# Altium integrated library BTL.IntLib: 37 symbols
Pins are listed as number, name and electrical type; pins without a type are passive.

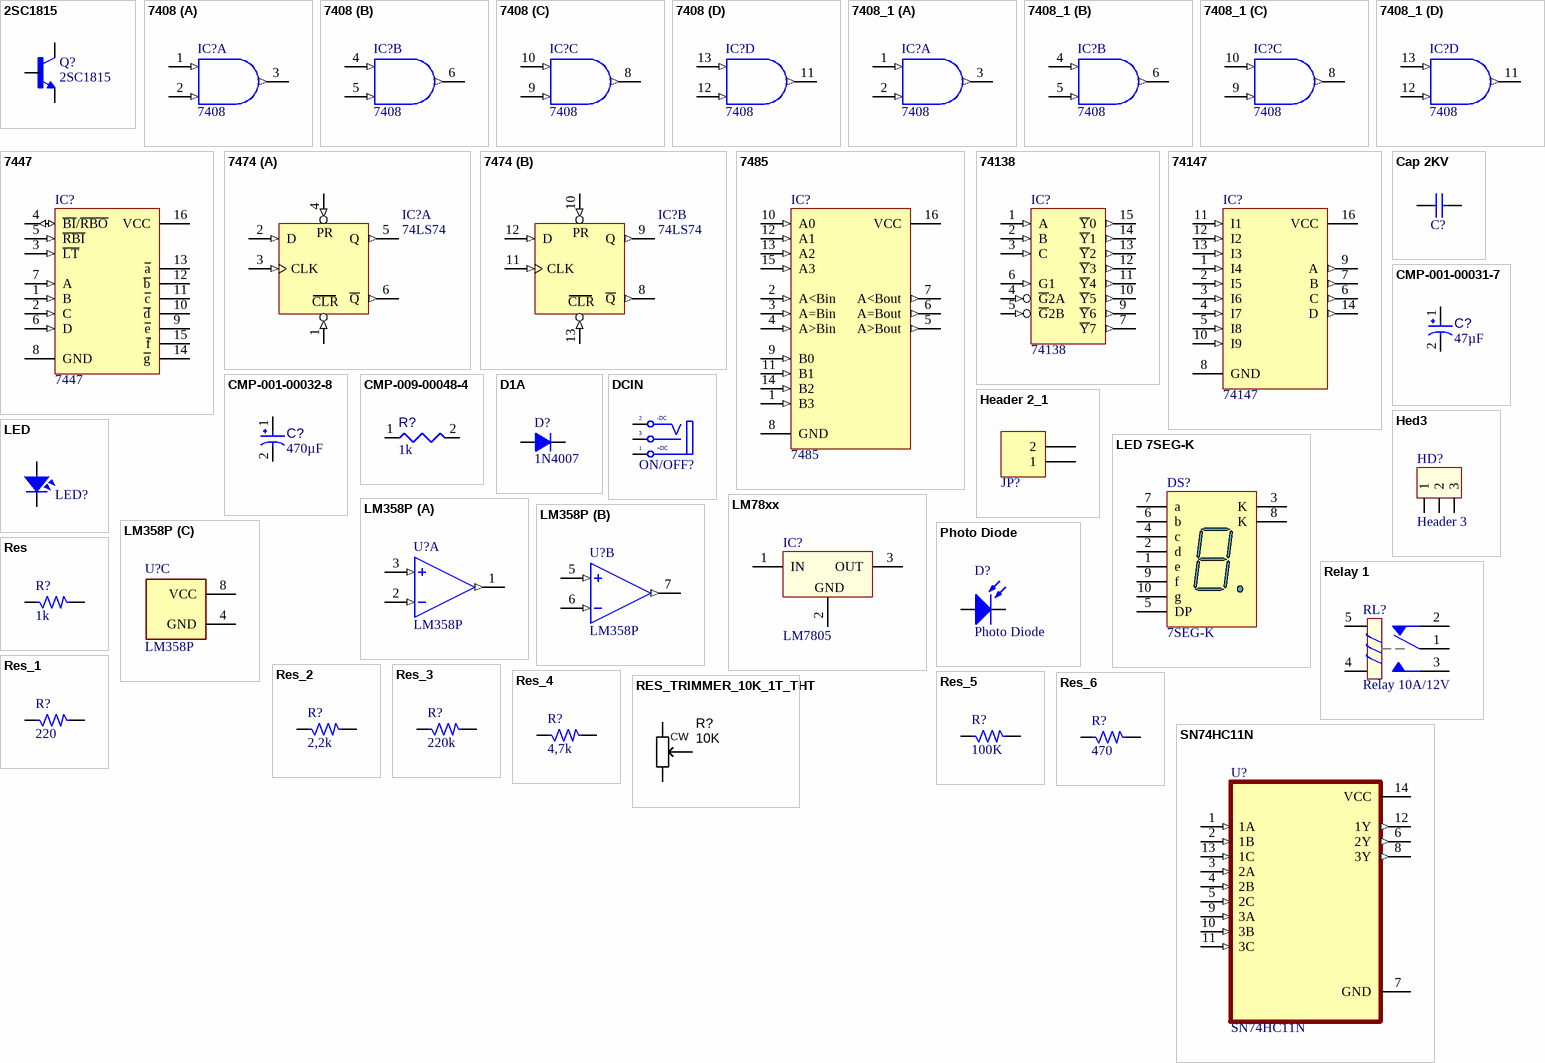
[diagram p0: symbols 2SC1815 to SN74HC11N]

## 2SC1815
designator Q?
MF: {'manufacturer': u'Micro Commercial'}; Package: None; Price: None; Value: *; MP: 2SC1815; Availability: Unavailable
footprint TO92127P521H534-3
pins: 1 E, 2 C, 3 B

## 7408
designator IC?
Quad 2-Input AND Gate; Value: 7408
footprint DIP14/W0.3 (14PIN, W 300mil, Pin to pin 100mil)
footprint 74HC04D SOIC14 (SOIC, 14-Leads, Body 8.65x3.90mm, Pitch 1.27mm, IPC Medium Density)
pins on every part: 7 GND (power) hidden to GND, 14 VCC (power) hidden to VCC
part A pins: 1 A (in), 2 B (in), 3 O (out)
part B pins: 4 A (in), 5 B (in), 6 O (out)
part C pins: 8 O (out), 9 B (in), 10 A (in)
part D pins: 11 O (out), 12 B (in), 13 A (in)

## 7408_1
designator IC?, comment 7408
Quad 2-Input AND Gate; Value: 7408
footprint DIP14/W0.3 (14PIN, W 300mil, Pin to pin 100mil)
pins on every part: 7 GND (power) hidden to GND, 14 VCC (power) hidden to VCC
part A pins: 1 A (in), 2 B (in), 3 O (out)
part B pins: 4 A (in), 5 B (in), 6 O (out)
part C pins: 8 O (out), 9 B (in), 10 A (in)
part D pins: 11 O (out), 12 B (in), 13 A (in)

## 7447
designator IC?
BCD to 7-Segment Decoder/Driver; Value: 7447 , 74247
footprint DIP16/W0.3 (16 PIN, W 300mil, Pin to pin 100mil)
pins: 1 B (in), 2 C (in), 3 ~{LT} (in), 4 ~{BI}/~{RBO} (io), 5 ~{RBI} (in), 6 D (in), 7 A (in), 8 GND (power), 9 ~{e} (oc), 10 ~{d} (oc), 11 ~{c} (oc), 12 ~{b} (oc), 13 ~{a} (oc), 14 ~{g} (oc), 15 ~{f} (oc), 16 VCC (power)

## 7474
designator IC?, comment 74LS74
Dual D Flip-Flop; Value: 74LS74; Copyright by: VanDungEvn@Gmail.com
footprint DIP14/W0.3 (14PIN, W 300mil, Pin to pin 100mil)
pins on every part: 7 GND (power) hidden to GND, 14 VCC (power) hidden to VCC
part A pins: 1 CLR (in), 2 D (in), 3 CLK (in), 4 PR (in), 5 Q (out), 6 ~{Q} (out)
part B pins: 8 ~{Q} (out), 9 Q (out), 10 PR (in), 11 CLK (in), 12 D (in), 13 CLR (in)

## 7485
designator IC?
4-Bit Magnitude Comparator; Copyright by: VanDungEvn@Gmail.com; Value: 7485
footprint DIP16/W0.3 (16 PIN, W 300mil)
pins: 1 B3 (in), 2 A<Bin (in), 3 A=Bin (in), 4 A>Bin (in), 5 A>Bout (out), 6 A=Bout (out), 7 A<Bout (out), 8 GND (power), 9 B0 (in), 10 A0 (in), 11 B1 (in), 12 A1 (in), 13 A2 (in), 14 B2 (in), 15 A3 (in), 16 VCC (power)

## 74138
designator IC?
3 -to- 8 Decoder - Out Low; Value: 74138; Copyright by: VanDungEvn@Gmail.com
footprint DIP16/W0.3 (16 PIN, W 300mil, Pin to pin 100mil)
pins: 1 A (in), 2 B (in), 3 C (in), 4 ~{G}2A (in), 5 ~{G}2B (in), 6 G1 (in), 7 ~{Y}7 (out), 8 GND (power) hidden to GND, 9 ~{Y}6 (out), 10 ~{Y}5 (out), 11 ~{Y}4 (out), 12 ~{Y}3 (out), 13 ~{Y}2 (out), 14 ~{Y}1 (out), 15 ~{Y}0 (out), 16 VCC (power) hidden to VCC

## 74147
designator IC?
10-Line to 4-Line Priority Encoder; Copyright by: VanDungEvn@Gmail.com
footprint DIP16/W0.3 (16 PIN, W 300mil, Pin to pin 100mil)
pins: 1 I4 (in), 2 I5 (in), 3 I6 (in), 4 I7 (in), 5 I8 (in), 6 C (out), 7 B (out), 8 GND (power), 9 A (out), 10 I9 (in), 11 I1 (in), 12 I2 (in), 13 I3 (in), 14 D (out), 16 VCC (power)

## Cap 2KV
designator C?, comment Capacitor Ceramic 2KV  (value not drawn)
Published: 8-Jun-2000; LatestRevisionDate: 17-Jul-2002; LatestRevisionNote: Re-released for DXP Platform.; PackageReference: RAD-0.3; Publisher: Altium Limited
footprint 103/2KV
pins: 1, 2

## CMP-001-00031-7
designator C?, comment value 47µF  (hidden comment: ECA-1HM470)
Aluminum Electrolytic Capacitor, 47 uF, +/-20%, 50 V, -40 to 85 degC, 2-Pin THD, RoHS, Bulk; Manufacturer: Panasonic; Ripple Current: 130mA; Voltage Rating: 50V; Tolerance: 20%; RoHS Compliant: True; Lead Pitch: 2.5mm; Packaging: Bulk; Case/Package: Radial; Diameter: 6.3mm; Datasheet Version: Apr-16; Mounting Technology: TH; Max Operating Temperature: 85°C; Package Quantity: 200; Package Description: 2-Pin Radial Lead, Dia 6.3 mm, Height 12.2 mm; Capacitor Type: Electrolytic; Min Operating Temperature: -40°C; Ripple Current (AC): 130mA; Manufacturer URL: http://www.panasonic.com/; Pins: 2; Datasheet URL: https://industrial.panasonic.com/cdbs/www-data/pdf/RDF0000/DMF0000COL72.pdf; Package Reference: CAPPR55-250-1120X630X1220
footprint CAPPR55-250-1120X630X1220 (THD, 2-Leads, Dia 6.3mm, Pin Spacing 2.5mm)
pins: 1, 2

## CMP-001-00032-8
designator C?, comment value 470µF  (hidden comment: ECA-1HM471)
Aluminum Electrolytic Capacitor, 470 uF, +/- 20%, 50 V, -40 to 85 degC, 2-Pin THD, RoHS, Bulk; Manufacturer: Panasonic; Ripple Current: 650mA; Voltage Rating: 50V; Ripple Current (AC): 650mA; Packaging: Bulk; Capacitor Type: Electrolytic; Diameter: 10mm; Datasheet URL: http://industrial.panasonic.com/cdbs/www-data/pdf/RDF0000/ABA0000C1047.pdf; Case/Package: Radial; Tolerance: 20%; Max Operating Temperature: 85°C; Pins: 2; Min Operating Temperature: -40°C; RoHS Compliant: True; Mounting Technology: TH; Package Quantity: 200; Lead Pitch: 5mm; Manufacturer URL: http://www.panasonic.com/; Package Description: 2-Pin Radial Lead, Dia 10 mm, Height 22 mm; Datasheet Version: Mar-16; Package Reference: CAPPR65-500-2000X1000X2200
footprint CAPPR65-500-2000X1000X2200 (THD, 2-Leads, Dia 10mm, Pin Spacing 5mm)
pins: 1, 2

## CMP-009-00048-4
designator R?, comment value 1k  (hidden comment: MFR-25FBF52-1K)
Axial Resistor, 1 KOhm, +/- 1%, 250 mW, -55 to 155 degC, 2-Pin THD, RoHS, Bulk; Manufacturer: Yageo; Voltage Rating: 250V; Power: 250mW; Min Operating Temperature: -55°C; Max Operating Temperature: 155°C; Tolerance: 1%; Package Reference: MFR-25; Composition: CarbonFilm; Mounting Technology: TH; Packaging: Bulk; Case/Package: Axial; Datasheet URL: http://www.yageo.com/documents/recent/Yageo%20LR_MFR_2013.pdf; Package Quantity: 200; Manufacturer URL: http://www.yageo.com/; Package Description: 2-Pin Axial Lead, Dia 2.4 mm, Body Length 6.3 mm; Datasheet Version: Apr-13; RoHS Compliant: True
footprint RESA60-630X240 (Axial Resistor, 2-Leads, Dia 2.4mm, Body Length 6.3mm)
pins: 1, 2
1 alternate drawing of the same symbol

## D1A
designator D?, comment 1N4007
Diode 1A; Value: 1N4007
footprint D1A (Diode 1A, W 100mil, L 350mil)
footprint D2A (Diode 2A, W 150mil, L 450mil)
pins: 1 A, 2 K

## DCIN
designator ON/OFF?, comment POWER  (value not drawn)
footprint DC-IN (Jac DC input)
footprint PJ-031D (Power Header 1mm)
pins: 1 T "Tip", 2 TN "Tip Normal (Break Contact)", 3 S (power) "Sleeve (Ground)"
text: -DC; +DC

## Header 2_1
designator JP?  (value not drawn)
Header, 2-Pin; Manufacturer: Generic Components; Class: Connector; Value: Header 2
footprint HED2 (Header 2, 2 pin, hight 300mil, Pin to Pin 200, Colour Green)
pins: 1, 2

## Hed3
designator HD?, comment Header 3
Header 3 (Green); Value: Header 3
footprint HED3 (Header 3, 3 pin, hight 300mil, Pin to Pin 200)
footprint HED3T (Header 3, 3 pin, hight 300mil, Pin to Pin 200, Colour Green)
footprint HED3B (Header 3, 3 pin, hight 300mil, Pin to Pin 150, Colour White)
pins: 1, 2, 3

## LED
designator LED?  (value not drawn)
LED Single colour Green and Red; Value: LED 3 ly Single Colour
footprint LED-5-BLUE (LED 2 PIN, 5 ly , Only colour, pin to pin 110mil)
footprint LED-5-Green (LED 2 PIN, 5 ly , Only colour,pin to pin 100mil)
footprint LED-5-RED (LED 2 PIN, 5 ly , Only colour,pin to pin 100mil)
footprint LED-5-WHITE (LED 2 PIN, 5 ly , Only colour, pin to pin 110mil)
footprint LED-5-Yellow (LED 2 PIN, 5 ly , Only colour,pin to pin 100mil)
footprint LED-3 (LED 2 PIN, 3ly Only colour)
pins: 1, 2

## LED 7SEG-K
designator DS?, comment 7SEG-K
14.2 mm General Purpose Blue 7-Segment Display: CC, RH DP, Gray Surface; MinimumIntensity: 2020 ucd; Note: IF = 10 mA; Published: 8-Jun-2000; LatestRevisionDate: 17-Dec-2003; LatestRevisionNote: Schematic revised, PCB Footprint replaced.; DatasheetDocument: 24-Sep-2002; PackageDocument: 24-Sep-2002; PackageReference: H; Publisher: Altium Limited; Colour: Blue; ComponentLink1Description: Manufacturer Link; ComponentLink1URL: http://www.agilent.com/
footprint LED7SEG
pins: 1 e "Anode", 2 d "Anode", 3 K "Common Cathode", 4 c "Anode", 5 DP "Anode", 6 b "Anode", 7 a "Anode", 8 K "Common Cathode", 9 f "Anode", 10 g "Anode"

## LM78xx
designator IC?, comment LM7805
On ap +, from + 5 to + 24VDC; Value: LM7805
footprint QTO-220 (TO-220 - 1-2-3)
footprint QTO-92 (TO-92)
footprint QTO-220H1 (TO-220 - 1-2-3)
footprint TO-252 (D-PAK/TO-252-AA; 3 Leads (1 Cropped); Body 10.3 (inc. leads) x 6.7 mm (LxW max))
pins: 1 IN, 2 GND, 3 OUT

## LM358P
designator U?
<a href="https://pricing.snapeda.com/parts/LM358P/Texas%20Instruments/view-part?ref=eda">Check prices</a>; MF: {'manufacturer': u'Texas Instruments'}; Package: None; Price: None; Value: *; MP: LM358P; Availability: Unavailable
footprint DIP8
part A pins: 1 OUT1 (out), 2 -IN1 (in), 3 +IN1 (in)
part B pins: 5 +IN2 (in), 6 -IN2 (in), 7 OUT2 (out)
part C pins: 4 GND (power), 8 VCC (power)

## Photo Diode
designator D?
Photosensitive Diode
footprint LED-5 (LED 2 PIN, 5 ly , Only colour)
pins: 1 A, 2 K

## Relay 1
designator RL?, comment Relay 10A/12V
Relay SPDT,10A - 12VDC 5 Pin; Value: Relay SPDT, 10A, 12V
footprint RL_SPDT_10A (Relay SPDT, 5 pin, 10A,W 650mil, L 800mil, H 800mil)
footprint RL_T78
pins: 1, 2, 3, 4, 5

## Res
designator R?, comment 1k
Res
footprint R1/4W (R 1/4W, 2 Pin, 350mil)
footprint R1/4WD (R 1/4W, 2 Pin, 150mil)
footprint R1/8W (R 1/8W, 2 pin, 300mil)
footprint R1/4W1 (R 1/4W, 2 Pin, 150mil)
footprint R1/2W (R 1/2W, 2 pin, 300mil)
footprint R1/4W3 (R 1/4W, 2 Pin, 350mil)
footprint R1/4W4 (R 1/4W, 2 Pin, 400mil)
footprint R1/4W7 (R 1/4W, 2 Pin, 600mil)
footprint R2W (R2W, 2 pin, 700mil)
footprint R5WD (R5W , 2 pin, 300 x 600 mil)
footprint R5W (R5W , 2 pin, 400 x 950mil)
footprint R3W (R2W, 2 pin, 700mil)
pins: 1, 2

## Res_1
designator R?, comment 220
Res
footprint R1/4W (R 1/4W, 2 Pin, 350mil)
footprint R1/4WD (R 1/4W, 2 Pin, 150mil)
footprint R1/8W (R 1/8W, 2 pin, 300mil)
footprint R1/4W1 (R 1/4W, 2 Pin, 150mil)
footprint R1/2W (R 1/2W, 2 pin, 300mil)
footprint R1/4W3 (R 1/4W, 2 Pin, 350mil)
footprint R1/4W4 (R 1/4W, 2 Pin, 400mil)
footprint R1/4W7 (R 1/4W, 2 Pin, 600mil)
footprint R2W (R2W, 2 pin, 700mil)
footprint R5WD (R5W , 2 pin, 300 x 600 mil)
footprint R5W (R5W , 2 pin, 400 x 950mil)
footprint R3W (R2W, 2 pin, 700mil)
pins: 1, 2

## Res_2
designator R?, comment 2,2k
Res
footprint R1/4W (R 1/4W, 2 Pin, 350mil)
footprint R1/4WD (R 1/4W, 2 Pin, 150mil)
footprint R1/8W (R 1/8W, 2 pin, 300mil)
footprint R1/4W1 (R 1/4W, 2 Pin, 150mil)
footprint R1/2W (R 1/2W, 2 pin, 300mil)
footprint R1/4W3 (R 1/4W, 2 Pin, 350mil)
footprint R1/4W4 (R 1/4W, 2 Pin, 400mil)
footprint R1/4W7 (R 1/4W, 2 Pin, 600mil)
footprint R2W (R2W, 2 pin, 700mil)
footprint R5WD (R5W , 2 pin, 300 x 600 mil)
footprint R5W (R5W , 2 pin, 400 x 950mil)
footprint R3W (R2W, 2 pin, 700mil)
pins: 1, 2

## Res_3
designator R?, comment 220k
Res
footprint R1/4W (R 1/4W, 2 Pin, 350mil)
footprint R1/4WD (R 1/4W, 2 Pin, 150mil)
footprint R1/8W (R 1/8W, 2 pin, 300mil)
footprint R1/4W1 (R 1/4W, 2 Pin, 150mil)
footprint R1/2W (R 1/2W, 2 pin, 300mil)
footprint R1/4W3 (R 1/4W, 2 Pin, 350mil)
footprint R1/4W4 (R 1/4W, 2 Pin, 400mil)
footprint R1/4W7 (R 1/4W, 2 Pin, 600mil)
footprint R2W (R2W, 2 pin, 700mil)
footprint R5WD (R5W , 2 pin, 300 x 600 mil)
footprint R5W (R5W , 2 pin, 400 x 950mil)
footprint R3W (R2W, 2 pin, 700mil)
pins: 1, 2

## Res_4
designator R?, comment 4,7k
Res
footprint R1/4W (R 1/4W, 2 Pin, 350mil)
footprint R1/4WD (R 1/4W, 2 Pin, 150mil)
footprint R1/8W (R 1/8W, 2 pin, 300mil)
footprint R1/4W1 (R 1/4W, 2 Pin, 150mil)
footprint R1/2W (R 1/2W, 2 pin, 300mil)
footprint R1/4W3 (R 1/4W, 2 Pin, 350mil)
footprint R1/4W4 (R 1/4W, 2 Pin, 400mil)
footprint R1/4W7 (R 1/4W, 2 Pin, 600mil)
footprint R2W (R2W, 2 pin, 700mil)
footprint R5WD (R5W , 2 pin, 300 x 600 mil)
footprint R5W (R5W , 2 pin, 400 x 950mil)
footprint R3W (R2W, 2 pin, 700mil)
pins: 1, 2

## Res_5
designator R?, comment 100K
Res
footprint R1/4W (R 1/4W, 2 Pin, 350mil)
footprint R1/4WD (R 1/4W, 2 Pin, 150mil)
footprint R1/8W (R 1/8W, 2 pin, 300mil)
footprint R1/4W1 (R 1/4W, 2 Pin, 150mil)
footprint R1/2W (R 1/2W, 2 pin, 300mil)
footprint R1/4W3 (R 1/4W, 2 Pin, 350mil)
footprint R1/4W4 (R 1/4W, 2 Pin, 400mil)
footprint R1/4W7 (R 1/4W, 2 Pin, 600mil)
footprint R2W (R2W, 2 pin, 700mil)
footprint R5WD (R5W , 2 pin, 300 x 600 mil)
footprint R5W (R5W , 2 pin, 400 x 950mil)
footprint R3W (R2W, 2 pin, 700mil)
pins: 1, 2

## Res_6
designator R?, comment 470
Res
footprint R1/4W (R 1/4W, 2 Pin, 350mil)
footprint R1/4WD (R 1/4W, 2 Pin, 150mil)
footprint R1/8W (R 1/8W, 2 pin, 300mil)
footprint R1/4W1 (R 1/4W, 2 Pin, 150mil)
footprint R1/2W (R 1/2W, 2 pin, 300mil)
footprint R1/4W3 (R 1/4W, 2 Pin, 350mil)
footprint R1/4W4 (R 1/4W, 2 Pin, 400mil)
footprint R1/4W7 (R 1/4W, 2 Pin, 600mil)
footprint R2W (R2W, 2 pin, 700mil)
footprint R5WD (R5W , 2 pin, 300 x 600 mil)
footprint R5W (R5W , 2 pin, 400 x 950mil)
footprint R3W (R2W, 2 pin, 700mil)
pins: 1, 2

## RES_TRIMMER_10K_1T_THT
designator R?, comment value 10K  (hidden comment: Single-turn pot)
Trimmer THD 10K 200mW Single-turn; Manufacturer 1: Bourns Inc.; Manufacturer Part Number 1: 3306F-1-103; Tolerance: ±25%; Ratings: 1/5W; SCDType: spec; Supplier 1: Digi-Key; Supplier Part Number 1: 3306F-103-ND; Material: Cermet; Package / Case: 8.10mm L x 6.81mm W x 7.62mm H
footprint POT_3306F
pins: CCW 1, CW 3, W 2

## SN74HC11N
designator U?
Package: None; Price: None; Value: *; MP: SN74HC11N; Availability: Unavailable
footprint DIP14/W0.3 (14PIN, W 300mil, Pin to pin 100mil)
pins: 1 1A (in), 2 1B (in), 3 2A (in), 4 2B (in), 5 2C (in), 6 2Y (out), 7 GND (power), 8 3Y (out), 9 3A (in), 10 3B (in), 11 3C (in), 12 1Y (out), 13 1C (in), 14 VCC (power)

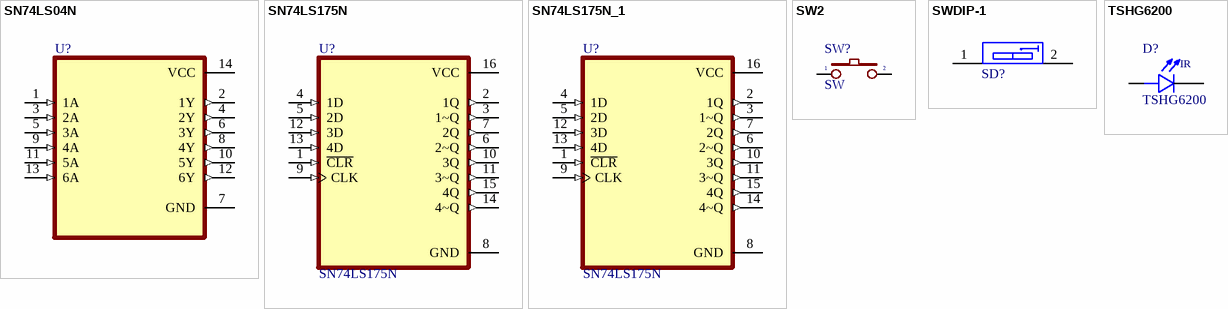
[diagram p1: symbols SN74LS04N to TSHG6200]

## SN74LS04N
designator U?
6-ch, 4.75-V to 5.25-V bipolar inverters; MF: Texas Instruments; MP: SN74LS04N; SnapEDA_Link: https://www.snapeda.com/parts/SN74LS04N/Texas+Instruments/view-part/?ref=snap; Purchase-URL: https://pricing.snapeda.com/search/part/SN74LS04N/?ref=eda; Package: PDIP-14 Texas Instruments; Price: None; Availability: In Stock; Check_prices: https://www.snapeda.com/parts/SN74LS04N/Texas+Instruments/view-part/?ref=eda; Value: *
footprint DIP14/W0.3 (14PIN, W 300mil, Pin to pin 100mil)
pins: 1 1A (in), 2 1Y (out), 3 2A (in), 4 2Y (out), 5 3A (in), 6 3Y (out), 7 GND (power), 8 4Y (out), 9 4A (in), 10 5Y (out), 11 5A (in), 12 6Y (out), 13 6A (in), 14 VCC (power)

## SN74LS175N
designator U?
MF: {'manufacturer': u'Texas Instruments'}; Package: None; Price: None; Value: *; MP: SN74LS175N; Availability: Unavailable
footprint DIP16
pins: 1 ~{CLR} (in), 2 1Q (out), 3 1~Q (out), 4 1D (in), 5 2D (in), 6 2~Q (out), 7 2Q (out), 8 GND (power), 9 CLK (in), 10 3Q (out), 11 3~Q (out), 12 3D (in), 13 4D (in), 14 4~Q (out), 15 4Q (out), 16 VCC (power)

## SN74LS175N_1
designator U?, comment SN74LS175N
Quadruple D-Type Flip-Flops With Clear 16-PDIP 0 to 70; MF: Texas Instruments; MP: SN74LS175N; SnapEDA_Link: https://www.snapeda.com/parts/SN74LS175N/Texas%20Instruments/view-part/572262/?ref=snap; Package: PDIP-16 Texas Instruments; Value: *; Check_prices: https://www.snapeda.com/parts/SN74LS175N/Texas%20Instruments/view-part/572262/?ref=eda; Purchase-URL: https://pricing.snapeda.com/search/part/SN74LS175N/?ref=eda; Digi-Key_Part_Number: 296-28719-2-ND
footprint DIP16
pins: 1 ~{CLR} (in), 2 1Q (out), 3 1~Q (out), 4 1D (in), 5 2D (in), 6 2~Q (out), 7 2Q (out), 8 GND (power), 9 CLK (in), 10 3Q (out), 11 3~Q (out), 12 3D (in), 13 4D (in), 14 4~Q (out), 15 4Q (out), 16 VCC (power)

## SW2
designator SW?, comment SW
Switch button 2 pin; Value: SW chip 2 pin
footprint SW2 (SW button 2pin, 250x 250 mil)
pins: 1, 2

## SWDIP-1
designator SD?, comment SW - DIP2  (value not drawn)
DIP Switch, 2 Position, SPST; Value: SW - DIP2
footprint DIP2/W0.3K (2 PIN, W 200mil , L 450mil,Pin to pin 100mil)
pins: 1 A1, 2 A2

## TSHG6200
designator D?
850 nm 100 mA Â±10Â° Through Hole High Speed Infrared Emitting Diode - T-1 3/4 CT; MF: {'manufacturer': u'Vishay'}; Package: None; Price: None; Value: *; MP: TSHG6200; Availability: Unavailable
footprint LEDRD254W55D595H900
pins: A, C
text: IR